# Altium schematic symbol library 信号层.SchLib: 14 symbols
Pins are listed as number, name and electrical type; pins without a type are passive.

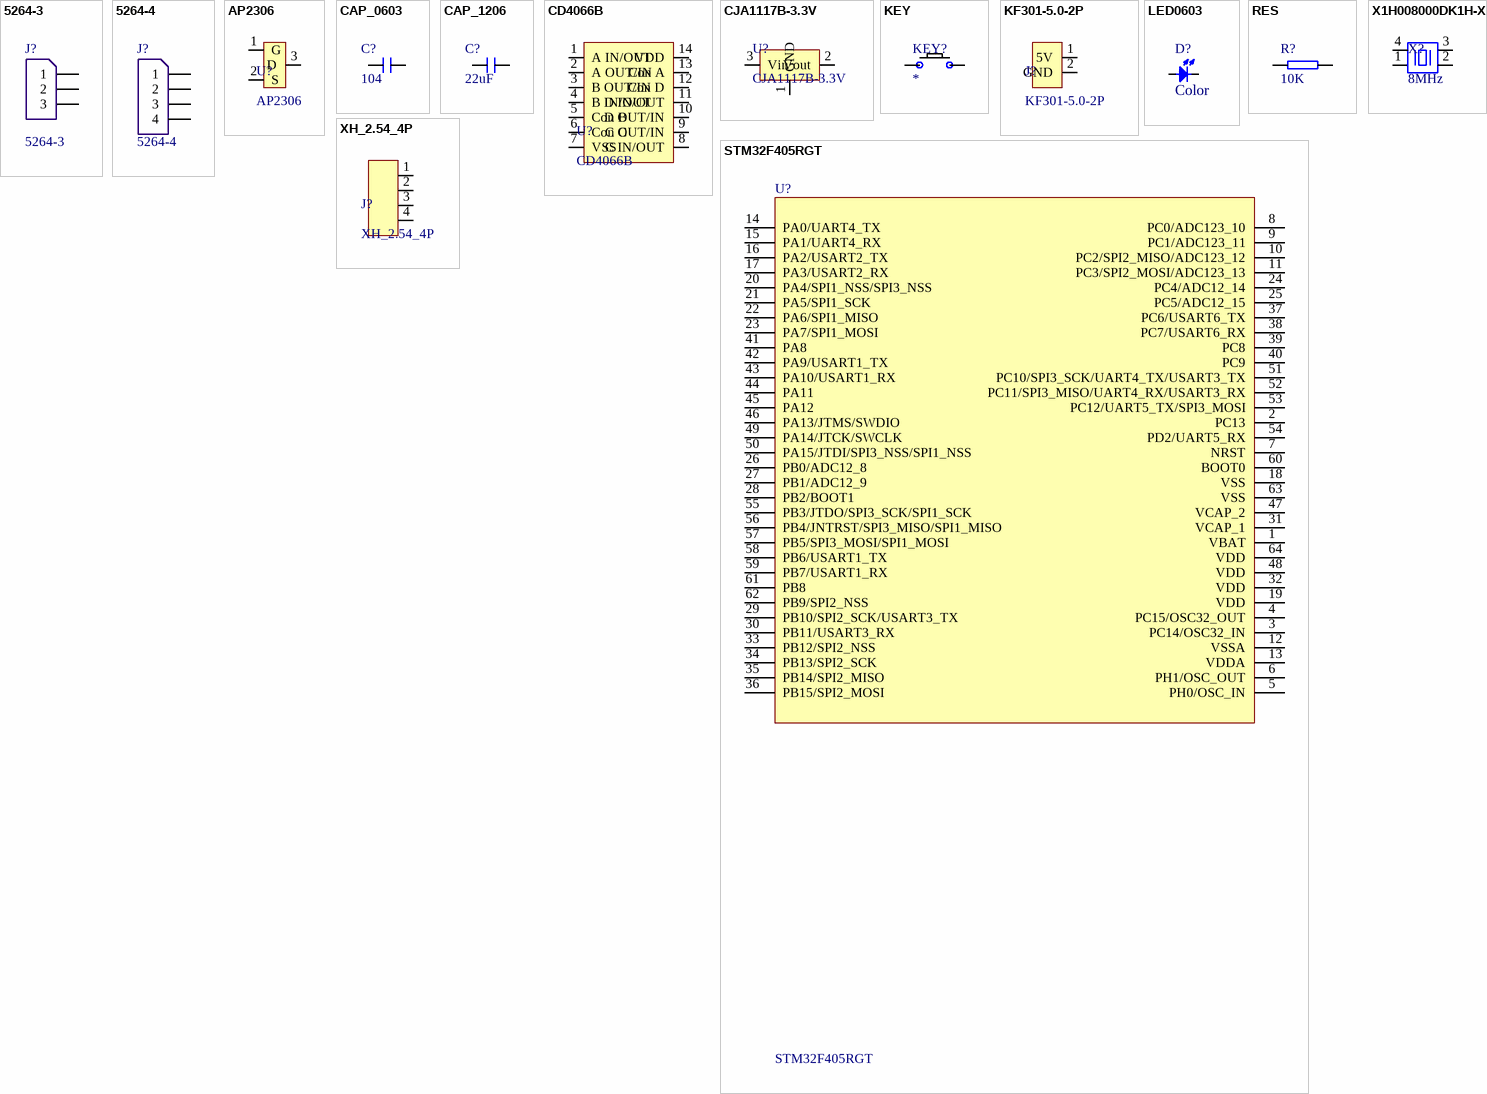
[diagram p0: symbols 5264-3 to XH_2.54_4P]

## 5264-3
designator J?
电机连接线
footprint 5264-3
pins: 1, 2, 3

## 5264-4
designator J?
串口线
footprint 5264-4
pins: 1, 2, 3, 4

## AP2306
designator U?
NMOS
footprint SOT-23-3_L2.9-W1.6-P1.90-LS2.8-BR
pins: 1 G, 2 S, 3 D

## CAP_0603
designator C?, comment 104
footprint 0603C
pins: 1, 2

## CAP_1206
designator C?, comment 22uF
footprint 1206C (1206贴片?)
pins: 1, 2

## CD4066B
designator U?
双向传输门（FET开关）
footprint TSSOP-14_L5.0-W4.4-P0.65-LS6.4-BL
pins: 1 A IN/OUT, 2 A OUT/IN, 3 B OUT/IN, 4 B IN/OUT, 5 Con B, 6 Con C, 7 VSS, 8 C IN/OUT, 9 C OUT/IN, 10 D OUT/IN, 11 D IN/OUT, 12 Con D, 13 Con A, 14 VDD

## CJA1117B-3.3V
designator U?
STM32电源输入
footprint SOT-89-3_L4.5-W2.5-P1.50-LS4.2-BR
pins: 1 GND, 2 Vout, 3 Vin

## KEY
designator KEY?
footprint KEY-SMD_2P-L6.0-W6.0-P6.00
pins: 1, 2

## KF301-5.0-2P
designator J?
电源输入
footprint KF301-2P-DC
pins: 1 5V, 2 GND

## LED0603
designator D?  value Color  (hidden comment: LED0603)
footprint 0603Led (0603贴?)
pins: 1, 2

## RES
designator R?, comment 10K
footprint 0603R (0603贴片)
pins: 1, 2

## STM32F405RGT
designator U?
footprint LQFP64
pins: 1 VBAT, 2 PC13, 3 PC14/OSC32_IN, 4 PC15/OSC32_OUT, 5 PH0/OSC_IN, 6 PH1/OSC_OUT, 7 NRST, 8 PC0/ADC123_10, 9 PC1/ADC123_11, 10 PC2/SPI2_MISO/ADC123_12, 11 PC3/SPI2_MOSI/ADC123_13, 12 VSSA, 13 VDDA, 14 PA0/UART4_TX, 15 PA1/UART4_RX, 16 PA2/USART2_TX, 17 PA3/USART2_RX, 18 VSS, 19 VDD, 20 PA4/SPI1_NSS/SPI3_NSS, 21 PA5/SPI1_SCK, 22 PA6/SPI1_MISO, 23 PA7/SPI1_MOSI, 24 PC4/ADC12_14, 25 PC5/ADC12_15, 26 PB0/ADC12_8, 27 PB1/ADC12_9, 28 PB2/BOOT1, 29 PB10/SPI2_SCK/USART3_TX, 30 PB11/USART3_RX, 31 VCAP_1, 32 VDD, 33 PB12/SPI2_NSS, 34 PB13/SPI2_SCK, 35 PB14/SPI2_MISO, 36 PB15/SPI2_MOSI, 37 PC6/USART6_TX, 38 PC7/USART6_RX, 39 PC8, 40 PC9, 41 PA8, 42 PA9/USART1_TX, 43 PA10/USART1_RX, 44 PA11, 45 PA12, 46 PA13/JTMS/SWDIO, 47 VCAP_2, 48 VDD, 49 PA14/JTCK/SWCLK, 50 PA15/JTDI/SPI3_NSS/SPI1_NSS, 51 PC10/SPI3_SCK/UART4_TX/USART3_TX, 52 PC11/SPI3_MISO/UART4_RX/USART3_RX, 53 PC12/UART5_TX/SPI3_MOSI, 54 PD2/UART5_RX, 55 PB3/JTDO/SPI3_SCK/SPI1_SCK, 56 PB4/JNTRST/SPI3_MISO/SPI1_MISO, 57 PB5/SPI3_MOSI/SPI1_MOSI, 58 PB6/USART1_TX, 59 PB7/USART1_RX, 60 BOOT0, 61 PB8, 62 PB9/SPI2_NSS, 63 VSS, 64 VDD

## X1H008000DK1H-X
designator X?, comment 8MHz
无源晶体
footprint CRYSTAL-SMD_4P-L5.0-W3.2-BL
pins: 1, 2, 3, 4

## XH_2.54_4P
designator J?
端子
footprint XH-2.54_7P_2.54
pins: 1, 2, 3, 4